# EAGLE library part TPS563200 (library dc-dc)
TPS56x200 4.5-V To 17-V Input, 2-A, 3-A Synchronous Step-Down Voltage Regulator In6 Pin SOT-23 datasheet <https://static.chipdip.ru/lib/786/DOC059786447.pdf>
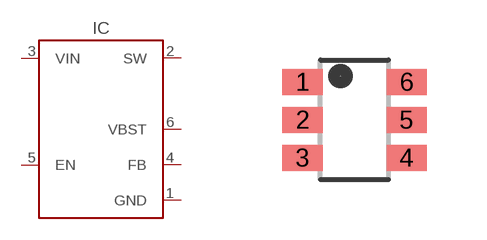
[diagram p1: symbol with the pads of SOT23-6; footprint SOT23-6]

Designator prefix IC

## TPS563200 (MANF: Texas Instruments; MANF#: TPS563200DDCR)  [SOT23-6]
1  GND
2  SW
3  VIN
4  FB
5  EN
6  VBST

## Footprint SOT23-6 (pad centres in mm)
smd 1 x 0.65: 1 -1.3,0.95; 2 -1.3,0; 3 -1.3,-0.95; 4 1.3,-0.95; 5 1.3,0; 6 1.3,0.95